# EAGLE library part SPARKFUN_LOGIC_LEVEL_CONVERTER (library Arduino pcbs)
SparkFun Logic Level Converter -Bi-Directional This is the mechnical outline for the 3.3V - 5V bi directional logic level converter. *Note, the "LOCK" Package has the header pins staggered by an offset of 5 mils (off center line), so that when you slide a row of standard 0.1" headers into the PTH pads, it will hold position vertically. See the follwing turorial for more information on this type of special footprints: Sneaky Footprints <https://www.sparkfun.com/tutorials/114> SparkFun Products: SparkFun Logic Level Converter - Bi-Directional <https://www.sparkfun.com/products/12009>
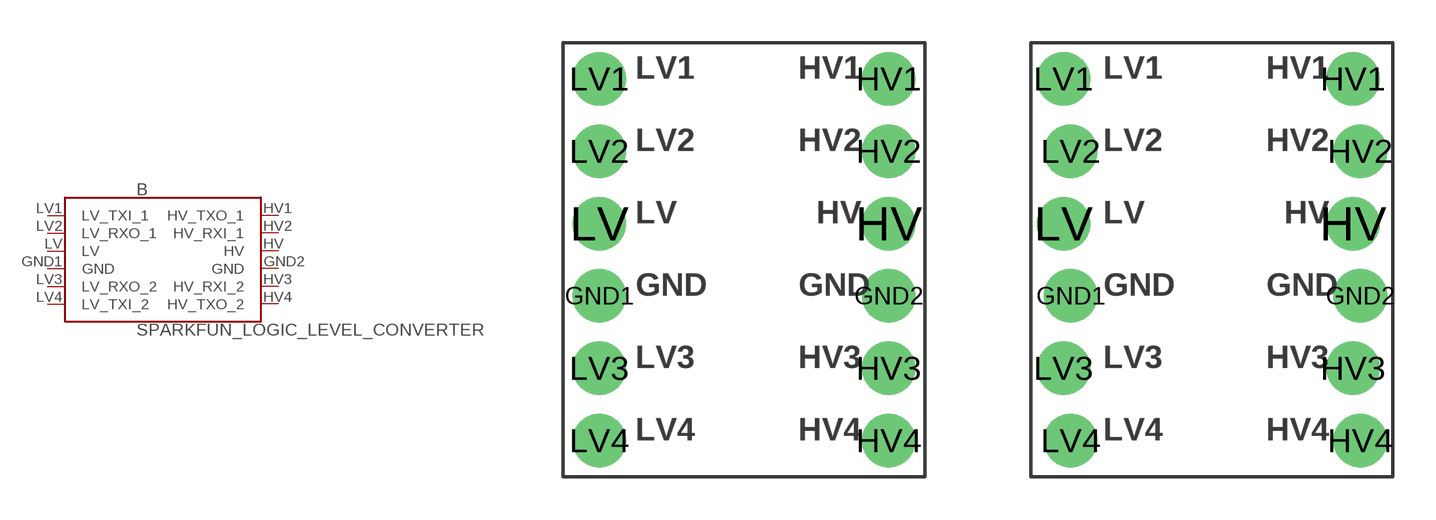
[diagram p7: symbol with the pads of SPARKFUN_LOGIC_LEVEL_CONVERTER; footprints SPARKFUN_LOGIC_LEVEL_CONVERTER, SPARKFUN_LOGIC_LEVEL_CONVERTER_LOCK]

Designator prefix B

## SPARKFUN_LOGIC_LEVEL_CONVERTER  [SPARKFUN_LOGIC_LEVEL_CONVERTER]
GND1  GND  pwr
GND2  GND  pwr
HV  HV  pwr
HV1  HV_TXO_1
HV2  HV_RXI_1
HV3  HV_RXI_2
HV4  HV_TXO_2
LV  LV  pwr
LV1  LV_TXI_1
LV2  LV_RXO_1
LV3  LV_RXO_2
LV4  LV_TXI_2

## SPARKFUN_LOGIC_LEVEL_CONVERTERLOCK  [SPARKFUN_LOGIC_LEVEL_CONVERTER_LOCK]
Pads as for SPARKFUN_LOGIC_LEVEL_CONVERTER

## Footprint SPARKFUN_LOGIC_LEVEL_CONVERTER (pad centres in mm)
SparkFun Logic Level Converter Specifications: Pin count:12 Pin pitch: 0.1" Area: 0.6x 0.5 " Example device(s): SparkFun Logic Level Converter
drill 1.016 pad 1.88: GND1 -5.08,-1.27; GND2 5.08,-1.27; HV 5.08,1.27; HV1 5.08,6.35; HV2 5.08,3.81; HV3 5.08,-3.81; HV4 5.08,-6.35; LV -5.08,1.27; LV1 -5.08,6.35; LV2 -5.08,3.81; LV3 -5.08,-3.81; LV4 -5.08,-6.35

## Footprint SPARKFUN_LOGIC_LEVEL_CONVERTER_LOCK (pad centres in mm)
drill 1.016 pad 1.88: GND1 -4.953,-1.27; GND2 5.207,-1.27; HV 4.953,1.27; HV1 4.953,6.35; HV2 5.207,3.81; HV3 4.953,-3.81; HV4 5.207,-6.35; LV -5.207,1.27; LV1 -5.207,6.35; LV2 -4.953,3.81; LV3 -5.207,-3.81; LV4 -4.953,-6.35